# Altium integrated library LowPower_3ER_Parts.IntLib: 22 symbols
Pins are listed as number, name and electrical type; pins without a type are passive.

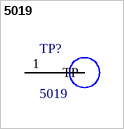
[diagram p0: symbol 5019]

## 5019
designator TP?
Phosphor Bronze Contact Miniature Silver Plated Surface Mount Test Points; MF: Keystone; Digi-Key_Part_Number: 36-5019CT-ND; Digi-Key_Purchase_URL: https://www.digikey.com/product-detail/en/keystone-electronics/5019/36-5019CT-ND/3907344?WT.z_cid=ref_snapeda; MP: 5019; Package: None; Value: *
footprint TP380X203
pins: 1 TP


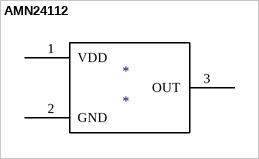
[diagram p1: symbol AMN24112]

## AMN24112
designator *
footprint AMN24112
pins: 1 VDD (power), 2 GND (power), 3 OUT


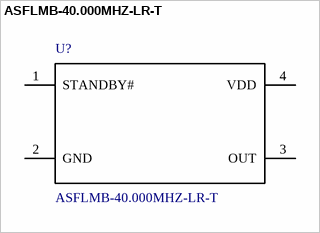
[diagram p2: symbol ASFLMB-40.000MHZ-LR-T]

## ASFLMB-40.000MHZ-LR-T
designator U?
Oscillator MEMS 40MHz ?25ppm (Stability) 15pF 55% 1.8V/2.5V/3.3V Automotive 4-Pin QFN SMD T/R; MF: Abracon; Availability: Good; Price: 1.39 USD; MP: ASFLMB-40.000MHZ-LR-T; Package: SMD-4 Abracon; Value: *
footprint OSCSC320X250X100N
pins: 1 STANDBY#, 2 GND, 3 OUT, 4 VDD


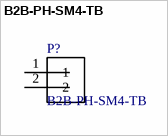
[diagram p3: symbol B2B-PH-SM4-TB]

## B2B-PH-SM4-TB
designator P?
MF: JST; Package: None; MP: B2B-PH-SM4-TB; Availability: Unavailable; Price: 0.23 USD; Value: *
footprint JST_B2B-PH-SM4-TB
pins: 1, 2


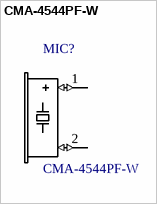
[diagram p4: symbol CMA-4544PF-W]

## CMA-4544PF-W
designator MIC?
CMA Series 9.7 mm Electret Condenser Omni-Directional Pin Mount 3 V Microphone; MF: CUI; Price: 0.53 USD; Package: None; Availability: Good; MP: CMA-4544PF-W; Value: *
footprint CMA-4544PF-W
pins: 1 POS (io), 2 NEG (io)


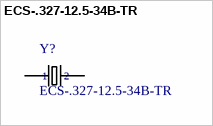
[diagram p5: symbol ECS-.327-12.5-34B-TR]

## ECS-.327-12.5-34B-TR
designator Y?
MF: ECS International; Package: SMD-2 ECS International; Digi-Key_Purchase_URL: https://www.digikey.com/product-detail/en/ecs-inc/ECS-.327-12.5-34B-TR/XC1617CT-ND/1693786?WT.z_cid=ref_snapeda; Digi-Key_Part_Number: XC1617CT-ND; MP: ECS-.327-12.5-34B-TR; Value: *
footprint XTAL320X150X90N
pins: 1, 2


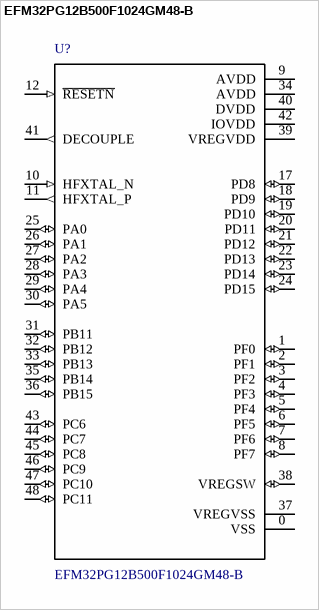
[diagram p6: symbol EFM32PG12B500F1024GM48-B]

## EFM32PG12B500F1024GM48-B
designator U?
MCU 32-bit ARM Cortex M4 RISC 1024KB Flash 3.3V 48-Pin QFN EP; MF: Silicon Labs; MP: EFM32PG12B500F1024GM48-B; Package: QFN-48 Silicon Labs; Price: 5.00 USD; Availability: Warning; Value: *
footprint QFN50P700X700X90-49N
pins: 0 VSS (power), 1 PF0 (io), 2 PF1 (io), 3 PF2 (io), 4 PF3 (io), 5 PF4 (io), 6 PF5 (io), 7 PF6 (io), 8 PF7 (io), 9 AVDD (power), 10 HFXTAL_N (in), 11 HFXTAL_P (out), 12 ~{RESETN} (in), 17 PD8 (io), 18 PD9 (io), 19 PD10 (io), 20 PD11 (io), 21 PD12 (io), 22 PD13 (io), 23 PD14 (io), 24 PD15 (io), 25 PA0 (io), 26 PA1 (io), 27 PA2 (io), 28 PA3 (io), 29 PA4 (io), 30 PA5 (io), 31 PB11 (io), 32 PB12 (io), 33 PB13 (io), 34 AVDD (power), 35 PB14 (io), 36 PB15 (io), 37 VREGVSS (power), 38 VREGSW (io), 39 VREGVDD (power), 40 DVDD (power), 41 DECOUPLE (out), 42 IOVDD (power), 43 PC6 (io), 44 PC7 (io), 45 PC8 (io), 46 PC9 (io), 47 PC10 (io), 48 PC11 (io)


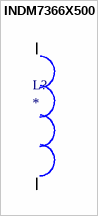
[diagram p7: symbol INDM7366X500]

## INDM7366X500
designator L?
footprint INDM7366X500
pins: 1, 2


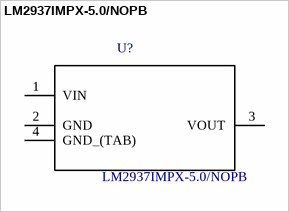
[diagram p8: symbol LM2937IMPX-5.0/NOPB]

## LM2937IMPX-5.0/NOPB
designator U?
LDO Regulator Pos 5V 0.5A Automotive 4-Pin(3+Tab) SOT-223 T/R; MF: Texas Instruments; Package: SOT-223 Texas Instruments; Availability: Good; MP: LM2937IMPX-5.0/NOPB; Price: 1.07 USD; Value: *
footprint SOT230P700X180-4N
pins: 1 VIN, 2 GND, 3 VOUT, 4 GND_(TAB)


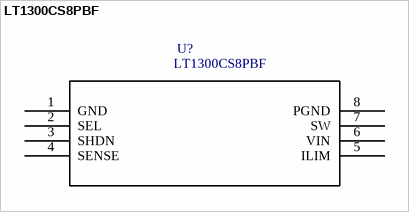
[diagram p9: symbol LT1300CS8PBF]

## LT1300CS8PBF
designator U?
PMIC - DC/DC voltage regulator Linear Technology LT1300CS8%23PBF Boost%2C Converter/amplifier SOIC 8; MP: LT1300CS8#PBF; Availability: Warning; Package: SO-8 Linear Technology; MF: Linear Technology; Price: 4.13 USD; Value: *
footprint SOIC-8_S
pins: 1 GND (power), 2 SEL, 3 SHDN, 4 SENSE, 5 ILIM, 6 VIN, 7 SW, 8 PGND (power)


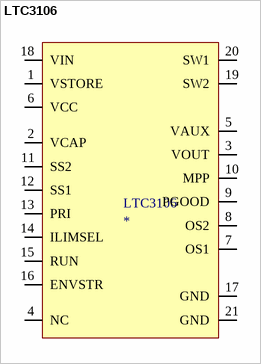
[diagram p10: symbol LTC3106]

## LTC3106
designator LTC3106
footprint LTC3106
pins: 1 VSTORE (power), 2 VCAP, 3 VOUT, 4 NC, 5 VAUX, 6 VCC (power), 7 OS1, 8 OS2, 9 PGOOD, 10 MPP, 11 SS2, 12 SS1, 13 PRI, 14 ILIMSEL, 15 RUN, 16 ENVSTR, 17 GND (power), 18 VIN (power), 19 SW2, 20 SW1, 21 GND (power)


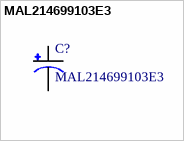
[diagram p11: symbol MAL214699103E3]

## MAL214699103E3
designator C?
146 CTI Series 50 V 100 uF 10 x 10 x 10 mm SMT CAN Electrolytic Capacitor; MF: Vishay; Price: 1.31 USD; Package: Radial Vishay; Availability: Good; MP: MAL214699103E3; Value: *
footprint CAPAE1050X1050N
pins: 1 POS, 2 NEG


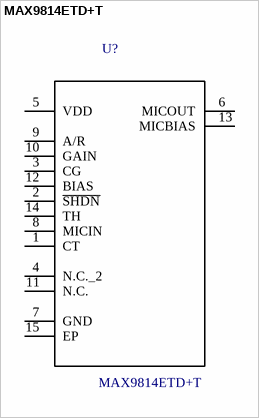
[diagram p12: symbol MAX9814ETD+T]

## MAX9814ETD+T
designator U?
Audio Amp Microphone 1-CH Mono Class-AB 14-Pin TDFN EP T/R; MF: Maxim Integrated; Price: 0.92 USD; MP: MAX9814ETD+T; Package: TDFN-14 Maxim Integrated; Availability: Good; Value: *
footprint DFN300X300X80-15N
footprint DFN300X300X80-15N
pins: 1 CT, 2 ~{SHDN}, 3 CG, 4 N.C._2, 5 VDD (power), 6 MICOUT, 7 GND, 8 MICIN, 9 A/R, 10 GAIN, 11 N.C., 12 BIAS, 13 MICBIAS, 14 TH, 15 EP


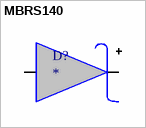
[diagram p13: symbol MBRS140]

## MBRS140
designator D?
MBRS140
footprint DO-214AC
pins: 1, 2


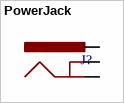
[diagram p14: symbol PowerJack]

## PowerJack
designator J?  (value not drawn)
PowerJack
footprint PCBComponent_1
pins: GND GNDBREAK, P$4 GND, VIN0 PWR


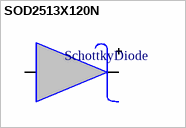
[diagram p15: symbol SOD2513X120N]

## SOD2513X120N
designator SchottkyDiode  (value not drawn)
footprint SOD2513X120N
pins: 1, 2


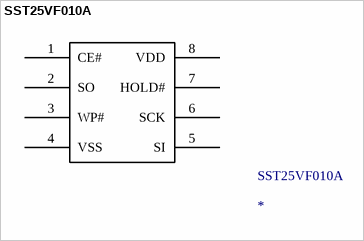
[diagram p16: symbol SST25VF010A]

## SST25VF010A
designator SST25VF010A
footprint SST25VF010A
pins: 1 CE#, 2 SO, 3 WP#, 4 VSS, 5 SI, 6 SCK, 7 HOLD#, 8 VDD


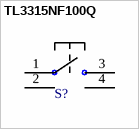
[diagram p17: symbol TL3315NF100Q]

## TL3315NF100Q
designator S?  (value not drawn)
TL3315 Series SPST 1 N Round Button J-Bend SMT Low Profile Tactile Switch; MF: E-Switch; MP: TL3315NF100Q; Price: 0.13 USD; Package: None; Availability: Good; Value: *
footprint TL3315NF100Q
pins: 1 P$1, 2 P$1, 3 P$2, 4 P$2


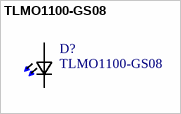
[diagram p18: symbol TLMO1100-GS08]

## TLMO1100-GS08
designator D?
Orange 0603 160Â° 80 mcd 2.1 V 30 mA Non Diffused Surface Mount LED; MF: Vishay; MP: TLMO1100-GS08; Digi-Key_Part_Number: 751-1174-1-ND; Package: 0603 Vishay; Digi-Key_Purchase_URL: https://www.digikey.com/product-detail/en/vishay-semiconductor-opto-division/TLMO1100-GS08/751-1174-1-ND/1681457?WT.z_cid=ref_snapeda; Value: *
footprint 0603_TLMO1100-GS08(Primary)
pins: 1 A2, 2 K2


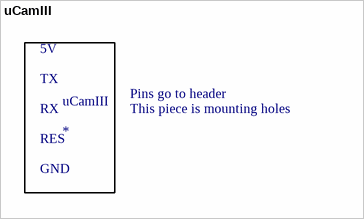
[diagram p19: symbol uCamIII]

## uCamIII
designator uCamIII
footprint uCamIII (Camera Drill Holes)
text: 5V; TX; Pins go to header; RX; This piece is mounting holes; RES; GND


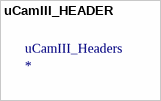
[diagram p20: symbol uCamIII_HEADER]

## uCamIII_HEADER
designator uCamIII_Headers
just a pin header for components
footprint uCamIII_Header (Connector; Header; 5 Position)
1 alternate drawing of the same symbol


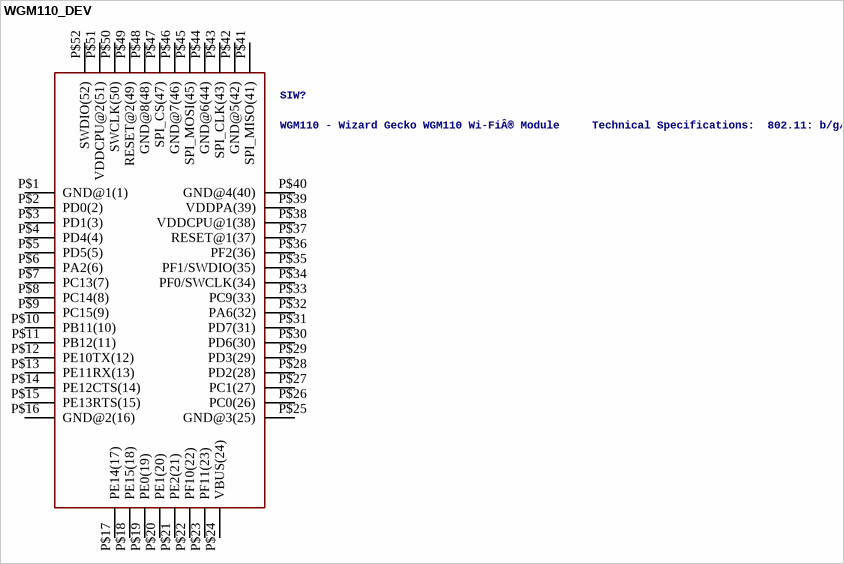
[diagram p21: symbol WGM110_DEV]

## WGM110_DEV
designator SIW?, comment WGM110 - Wizard Gecko WGM110 Wi-FiÂ® Module     Technical Specifications:  802.11: b/g/n  TX Power: +16 dBm  RX Sensitivity: -98 dBm  ARMÂ® Cortex-M3        Arrow: WGM110A1MV1 Digikey: 336-3597-ND Mouser: 634-WGM110A1MV1
footprint WGM110_PAC
pins: P$1 GND@1(1) (power), P$2 PD0(2), P$3 PD1(3), P$4 PD4(4), P$5 PD5(5), P$6 PA2(6), P$7 PC13(7), P$8 PC14(8), P$9 PC15(9), P$10 PB11(10), P$11 PB12(11), P$12 PE10TX(12), P$13 PE11RX(13), P$14 PE12CTS(14), P$15 PE13RTS(15), P$16 GND@2(16) (power), P$17 PE14(17), P$18 PE15(18), P$19 PE0(19), P$20 PE1(20), P$21 PE2(21), P$22 PF10(22), P$23 PF11(23), P$24 VBUS(24) (power), P$25 GND@3(25) (power), P$26 PC0(26), P$27 PC1(27), P$28 PD2(28), P$29 PD3(29), P$30 PD6(30), P$31 PD7(31), P$32 PA6(32), P$33 PC9(33), P$34 PF0/SWCLK(34), P$35 PF1/SWDIO(35), P$36 PF2(36), P$37 RESET@1(37), P$38 VDDCPU@1(38) (power), P$39 VDDPA(39) (power), P$40 GND@4(40) (power), P$41 SPI_MISO(41), P$42 GND@5(42) (power), P$43 SPI_CLK(43), P$44 GND@6(44) (power), P$45 SPI_MOSI(45), P$46 GND@7(46) (power), P$47 SPI_CS(47), P$48 GND@8(48) (power), P$49 RESET@2(49), P$50 SWCLK(50), P$51 VDDCPU@2(51) (power), P$52 SWDIO(52)